# Altium integrated library Infineon_Power_Smart_Low-Side_&_High-Side_Switches.IntLib: 238 symbols (part 8 of 14)
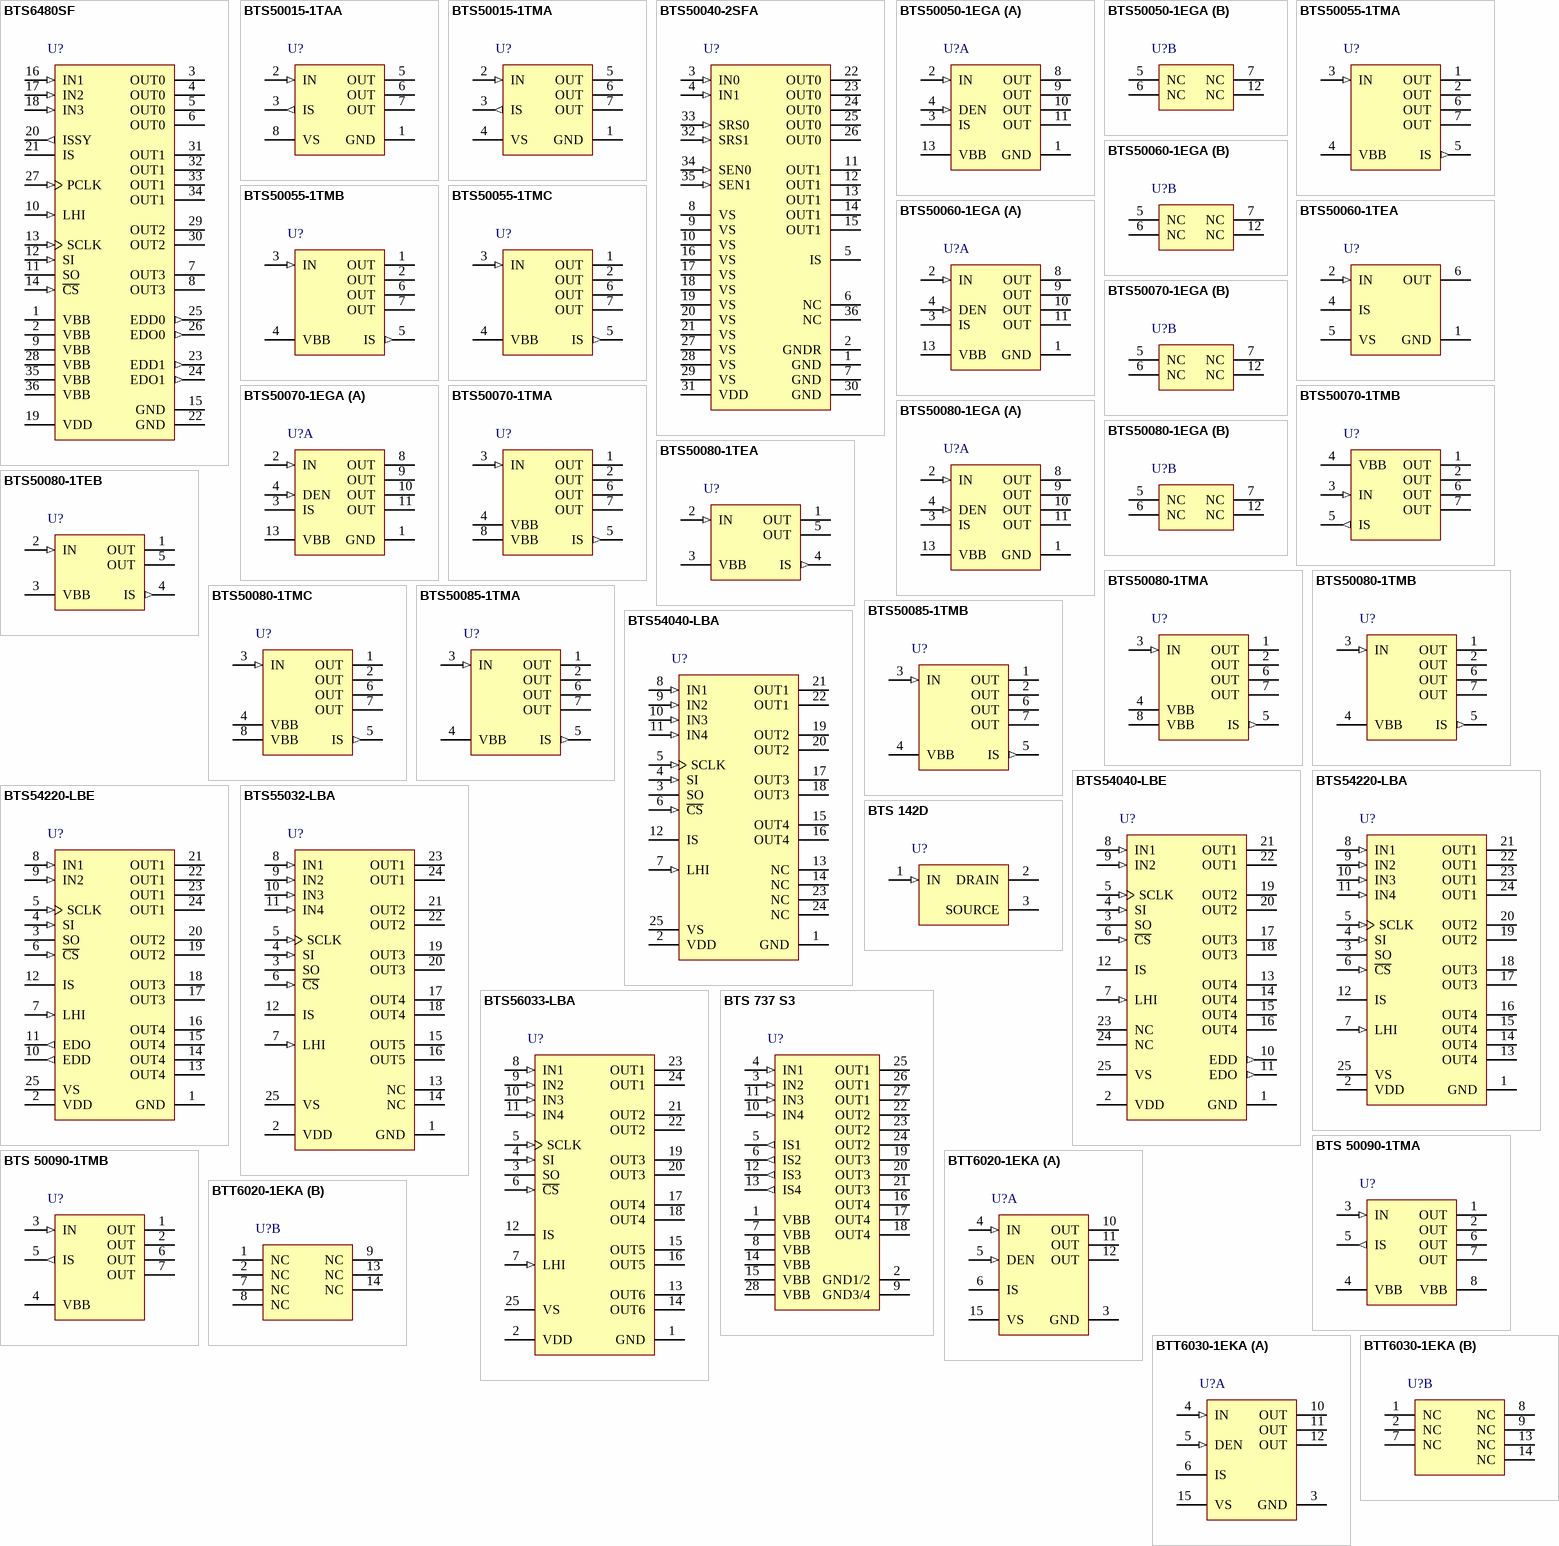
[diagram p14: symbols BTS6480SF to BTT6030-1EKA]

## BTS50015-1TAA
designator U?
Smart High-Side Power Switch, 1 Channel, 39 A Load Current, -40 to 150 degC, PG-TO-263-7-8, Reel, Green; Manufacturer: Infineon; PartNumber: BTS50015-1TAA; Channels: 1; Green: TRUE; Group: Automotive Qualified; Load Current (typ): 39 A; Ptot (max): 200 W; Recommended Operating Voltage Max.: 28 V; Recommended Operating Voltage Min.: 5.5 V; RON @ 25degreesC: 1.5 mOhm; RON(max) @ 150degreesC: 3 mOhm; toff (max): 700 us; DatasheetVersion: Rev. 1.2; PackageVersion: Nov-12; PackageReference: PG-TO-263-7-8; PackageDescription: 7-Pin Plastic (Green) Transistor Single Outline Package, 10 x 9.25 mm Body, 1.27 mm Pitch; Halogen-free: TRUE; Packing: Reel; ton (max): 700 us; Mounting Technology: Surface Mount; ComponentLink1Description: Manufacturer URL; ComponentLink1URL: http://www.infineon.com/; ComponentLink2Description: Datasheet; ComponentLink2URL: http://www.infineon.com/dgdl/BTS50015-1TAA-Data-Sheet-12-Infineon.pdf?folderId=db3a30431400ef68011421b54e2e0564&fileId=db3a30433784a04001380a070e4417b4&location=en.Products.Automotive_ICs.Smart_High-_and_Low-Side_Switches.PROFET__-_Smart_High_Side_Switches.DATASHEET.BTS50015-1TAA-Data-Sheet-12-Infineon.pdf; ComponentLink3Description: Package Specification; ComponentLink3URL: http://www.infineon.com/dgdl/BTS50015-1TAA-Data-Sheet-12-Infineon.pdf?folderId=db3a30431400ef68011421b54e2e0564&fileId=db3a30433784a04001380a070e4417b4&sId=db3a30433d68e984013d7d9b76595dff
footprint INF-PG-TO-263-7-8_N (DPAK, 7-Leads, Body 10x9.25mm, Pitch 1.27mm, IPC Medium Density)
footprint INF-PG-TO-263-7-8_L (DPAK, 7-Leads, Body 10x9.25mm, Pitch 1.27mm, IPC High Density)
footprint INF-PG-TO-263-7-8_M (DPAK, 7-Leads, Body 10x9.25mm, Pitch 1.27mm, IPC Low Density)
pins: 1 GND (power) "GrouND; Ground connection", 2 IN (in) "INput; Input signal for channel activation. HIGH active", 3 IS (out) "Sense; Provides signal for diagnosis", 5 OUT (power) "OUTput; Protected high side power output", 6 OUT (power) "OUTput; Protected high side power output", 7 OUT (power) "OUTput; Protected high side power output", 8 VS (power) "Supply Voltage; Battery voltage"

## BTS50015-1TMA
designator U?
Smart High-Side Power Switch, 1 Channel, 39 A Load Current, -40 to 150 degC, PG-TO-220-7-232, Reel, Green; Manufacturer: Infineon; PartNumber: BTS50015-1TMA; Channels: 1; Green: TRUE; Group: Automotive Qualified; Load Current (typ): 39 A; Ptot (max): 200 W; Recommended Operating Voltage Max.: 28 V; Recommended Operating Voltage Min.: 5.5 V; RON @ 25degreesC: 1.5 mOhm; RON(max) @ 150degreesC: 3 mOhm; toff (max): 700 us; DatasheetVersion: Rev. 1.1; PackageVersion: Jun-12; PackageReference: PG-TO-220-7-232; PackageDescription: 7-Pin Plastic (Green) Transistor Single Outline Package, 10 x 9.25 mm Body, 1.27 mm Pitch; Halogen-free: TRUE; Packing: Reel; ton (max): 700 us; Mounting Technology: Through Hole; ComponentLink1Description: Manufacturer URL; ComponentLink1URL: http://www.infineon.com/; ComponentLink2Description: Datasheet; ComponentLink2URL: http://www.infineon.com/dgdl/BTS50015-1TMA-Data-Sheet-11-Infineon.pdf?folderId=db3a30431400ef68011421b54e2e0564&fileId=db3a30433784a04001380e5aebb063eb&location=en.Products.Automotive_ICs.Smart_High-_and_Low-Side_Switches.PROFET__-_Smart_High_Side_Switches.DATASHEET.BTS50015-1TMA-Data-Sheet-11-Infineon.pdf; ComponentLink3Description: Package Specification; ComponentLink3URL: http://www.infineon.com/dgdl/BTS50015-1TMA-Data-Sheet-11-Infineon.pdf?folderId=db3a30431400ef68011421b54e2e0564&fileId=db3a30433784a04001380e5aebb063eb&sId=db3a30433d68e984013d81db2769743c
footprint INF-PG-TO-220-7-232 (FM, 7-Leads, Body 10x4.4mm, Pitch 1.27mm)
pins: 1 GND (power) "GrouND; Ground connection", 2 IN (in) "INput; Input signal for channel activation. HIGH active", 3 IS (out) "Sense; Provides signal for diagnosis", 4 VS (power) "Supply Voltage; Battery voltage", 5 OUT (power) "OUTput; Protected high side power output", 6 OUT (power) "OUTput; Protected high side power output", 7 OUT (power) "OUTput; Protected high side power output"

## BTS50040-2SFA
designator U?
Smart High-Side Power Switch, 2 Channels: 2 x 4 mOhm, 11 A Load Current, -40 to 150 degC, PG-DSO-36-44, Reel, Green; Manufacturer: Infineon; PartNumber: BTS50040-2SFA; Channels: 2; Green: TRUE; Group: Automotive Qualified; Load Current (typ): 11 A; Recommended Operating Voltage Max.: 28 V; Recommended Operating Voltage Min.: 6 V; RON @ 25degreesC: 4 mOhm; RON(max) @ 150degreesC: 8.2 mOhm; toff (max): 110 us; ton (max): 190 us; DatasheetVersion: Rev. 1.2; PackageVersion: Dec-12; PackageReference: PG-DSO-36-44; PackageDescription: 36-Pin Plastic (Green) Dual Small Outline Package, 12.7 x 7.5 mm Body, 0.65 mm Pitch; Halogen-free: TRUE; Packing: Reel; Mounting Technology: Surface Mount; ComponentLink1Description: Manufacturer URL; ComponentLink1URL: http://www.infineon.com/; ComponentLink2Description: Datasheet; ComponentLink2URL: http://www.infineon.com/dgdl/BTS50040-2SFA_DS_v12_2012-12-01.pdf?folderId=db3a30431400ef68011421b54e2e0564&fileId=db3a304334c41e910134c6debd0b303b&location=en.Products.Automotive_ICs.Smart_High-_and_Low-Side_Switches.PROFET__-_Smart_High_Side_Switches.DATASHEET.BTS50040-2SFA_DS_v12_2012-12-01.pdf; ComponentLink3Description: Package Specification; ComponentLink3URL: http://www.infineon.com/dgdl/BTS50040-2SFA_DS_v12_2012-12-01.pdf?folderId=db3a30431400ef68011421b54e2e0564&fileId=db3a304334c41e910134c6debd0b303b&sId=db3a30443d67b5ca013d81969ddd2cf7
footprint INF-PG-DSO-36-44_N (SOP, 36-Leads, Body 12.7x7.5mm, Pitch 0.65mm, IPC Medium Density)
footprint INF-PG-DSO-36-44_L (SOP, 36-Leads, Body 12.7x7.5mm, Pitch 0.65mm, IPC High Density)
footprint INF-PG-DSO-36-44_M (SOP, 36-Leads, Body 12.7x7.5mm, Pitch 0.65mm, IPC Low Density)
pins: 1 GND (power) "Ground; Ground connection for control chip", 2 GNDR (power) "Ground reference; Needs to be connected to GND", 3 IN0 (in) "Input 0; activates channel 0. Has an internal pull down resistor", 4 IN1 (in) "Input 1; activates channel 1. Has an internal pull down resistor", 5 IS (hiz) "Sense Output; analog sense current signal proportional to IL0 or IL1", 6 NC "Not connected; For handling of NC pins, please see Chapter 7.1", 7 GND (power) "Ground; Ground connection for control chip", 8 VS (power) "Supply voltage; Positive power supply for power outputs", 9 VS (power) "Supply voltage; Positive power supply for power outputs", 10 VS (power) "Supply voltage; Positive power supply for power outputs", 11 OUT1 (power) "Output of channel 1; power output 1", 12 OUT1 (power) "Output of channel 1; power output 1", 13 OUT1 (power) "Output of channel 1; power output 1", 14 OUT1 (power) "Output of channel 1; power output 1", 15 OUT1 (power) "Output of channel 1; power output 1", 16 VS (power) "Supply voltage; Positive power supply for power outputs", 17 VS (power) "Supply voltage; Positive power supply for power outputs", 18 VS (power) "Supply voltage; Positive power supply for power outputs", 19 VS (power) "Supply voltage; Positive power supply for power outputs", 20 VS (power) "Supply voltage; Positive power supply for power outputs", 21 VS (power) "Supply voltage; Positive power supply for power outputs", 22 OUT0 (power) "Output of channel 0; power output 0", 23 OUT0 (power) "Output of channel 0; power output 1", 24 OUT0 (power) "Output of channel 0; power output 2", 25 OUT0 (power) "Output of channel 0; power output 3", 26 OUT0 (power) "Output of channel 0; power output 4", 27 VS (power) "Supply voltage; Positive power supply for power outputs", 28 VS (power) "Supply voltage; Positive power supply for power outputs", 29 VS (power) "Supply voltage; Positive power supply for power outputs", 30 GND (power) "Ground; Ground connection for control chip", 31 VDD (power) "Logic supply (5V)", 32 SRS1 (in) "Slew rate selector pin 0. See section "Timings" on Page 22 for seetings", 33 SRS0 (in) "Slew rate selector pin 1. See section "Timings" on Page 22 for seetings", 34 SEN0 (in) "Sense Enable for channel 0. See Table 1", 35 SEN1 (in) "Sense Enable for channel 1. See Table 2", 36 NC "Not connected; For handling of NC pins, please see Chapter 7.1"

## BTS50050-1EGA
designator U?
Smart High-Side Power Switch PROFET, 1 Channel, 16 A Load Current, -40 to 150 degC, PG-DSO-12-16, Tube, Green; Manufacturer: Infineon; PartNumber: BTS50050-1EGA; Channels: 1; Green: TRUE; Group: Automotive Qualified; Load Current (typ): 16 A; Recommended Operating Voltage Max.: 28 V; Recommended Operating Voltage Min.: 6 V; RON @ 25degreesC: 5 mOhm; RON(max) @ 150degreesC: 10 mOhm; toff (max): 500 us; DatasheetVersion: Rev. 1.0; PackageVersion: Jun-08; PackageReference: PG-DSO-12-16; PackageDescription: 12-Pin Plastic (Green) Dual Small Outline Package, 7.5 x 6.4 mm Body, 1 mm Pitch; Supplier 1: Mouser; Supplier Part Number 1: 726-BTS500501EGA; Supplier 2: Digi-Key; Supplier Part Number 2: BTS50050-1EGA-ND; Halogen-free: TRUE; Packing: Tube; ton (max): 500 us; Mounting Technology: Surface Mount; ComponentLink1Description: Manufacturer URL; ComponentLink1URL: http://www.infineon.com/; ComponentLink2Description: Datasheet; ComponentLink2URL: http://www.infineon.com/dgdl/BTS50050-1EGA_DS_V10_20090406.pdf?folderId=db3a30431400ef68011421b54e2e0564&fileId=db3a30432239cccd01225963187d6b52&location=en.Products.Automotive_ICs.Smart_High-_and_Low-Side_Switches.PROFET__-_Smart_High_Side_Switches.DATASHEET.BTS50050-1EGA_DS_V10_20090406.pdf; ComponentLink3Description: Package Specification; ComponentLink3URL: http://www.infineon.com/dgdl/PG-DSO-12-4%2C-5%2C-8%2C-11%2C-12%2C-16-Package_Overview.pdf?folderId=db3a30431a5c32f2011a96d8abf9584d&fileId=db3a30431a5c32f2011a96ea67ce586f
footprint INF-PG-DSO-12-16_N (SOP, 12-Leads, Body 7.5x6.4mm, Pitch 1mm, Thermal Pad 4.3X7.9mm, IPC Medium Density)
footprint INF-PG-DSO-12-16_L (SOP, 12-Leads, Body 7.5x6.4mm, Pitch 1mm, Thermal Pad 4.3X7.9mm, IPC High Density)
footprint INF-PG-DSO-12-16_M (SOP, 12-Leads, Body 7.5x6.4mm, Pitch 1mm, Thermal Pad 4.3X7.9mm, IPC Low Density)
part A pins: 1 GND (power) "Ground connection for control chip", 2 IN (in) "Input: activates power switch. Has an internal pull down resistor.", 3 IS (hiz) "Sense Output: With diagnosis enabled, provides a sense current proportional to the load current during normal operation. During open load in ON provides no current. Provides a defined fault current in case of overload, over (See Datasheet)", 4 DEN (in) "Diagnosis ENable: with high level enables diagnosis reporting and open load / short to battery detection in OFF. Resets a protective, latched switch-off by falling edge acknowledgement. Has an internal pull down resistor.", 8 OUT (hiz) "Output: output to the load; pins 8 to 11 must be externally shorted together", 9 OUT (hiz) "Output: output to the load; pins 8 to 11 must be externally shorted together", 10 OUT (hiz) "Output: output to the load; pins 8 to 11 must be externally shorted together", 11 OUT (hiz) "Output: output to the load; pins 8 to 11 must be externally shorted together", 13 VBB (power) "Supply Voltage: positive power supply for logic and output"
part B pins: 5 NC "Not connected", 6 NC "Not connected", 7 NC "Not connected", 12 NC "Not connected"

## BTS50055-1TMA
designator U?
Smart Highside High Current Power Switch Reversave, 1 Channel, 17 A Load Current, -40 to 150 degC, PG-TO220-7-4, Reel, Green; Manufacturer: Infineon; PartNumber: BTS50055-1TMA; Channels: 1; Green: TRUE; Group: Automotive Qualified; Load Current (typ): 17 A; Recommended Operating Voltage Max.: 34 V; Recommended Operating Voltage Min.: 5 V; RON @ 25degreesC: 6 mOhm; RON(max) @ 150degreesC: 10.5 mOhm; toff (max): 500 us; DatasheetVersion: Rev. 1.1; PackageVersion: Apr-10; PackageReference: PG-TO220-7-4; PackageDescription: 7-Pin Plastic (Green) Transistor Single Outline Package, 10 x 9.25 mm Body, 1.27 mm Pitch; Supplier 1: Mouser; Supplier Part Number 1: 726-BTS500551TMA; Supplier 2: Newark; Supplier Part Number 2: 47W3395; Supplier 3: Farnell; Supplier Part Number 3: 2215481; Supplier 4: Digi-Key; Supplier Part Number 4: BTS50055-1TMATR-ND; Supplier 5: Digi-Key; Supplier Part Number 5: BTS50055-1TMACT-ND; Supplier 6: Digi-Key; Supplier Part Number 6: BTS50055-1TMADKR-ND; Halogen-free: TRUE; Packing: Reel; ton (max): 500 us; Mounting Technology: Surface Mount; ComponentLink1Description: Manufacturer URL; ComponentLink1URL: http://www.infineon.com/; ComponentLink2Description: Datasheet; ComponentLink2URL: http://www.infineon.com/dgdl/BTS50055-1TMA_DS_v11.pdf?folderId=db3a304314dca389011537739e37155f&fileId=db3a3043183a95550118607dca6c36c1&location=en.Products.Automotive_ICs.Smart_High-_and_Low-Side_Switches.PROFET__-_Smart_High_Side_Switches.DATASHEET.BTS50055-1TMA_DS_v11.pdf; ComponentLink3Description: Package Specification; ComponentLink3URL: http://www.infineon.com/dgdl/BTS50055-1TMA_DS_v11.pdf?folderId=db3a304314dca389011537739e37155f&fileId=db3a3043183a95550118607dca6c36c1&sId=db3a30433d68e984013d81e8892a7448
footprint INF-PG-TO220-7-4_N (DPAK, 7-Leads, Body 10x9.25mm, Pitch 1.27mm, IPC Medium Density)
footprint INF-PG-TO220-7-4_L (DPAK, 7-Leads, Body 10x9.25mm, Pitch 1.27mm, IPC High Density)
footprint INF-PG-TO220-7-4_M (DPAK, 7-Leads, Body 10x9.25mm, Pitch 1.27mm, IPC Low Density)
pins: 1 OUT (power) "Output to the load. The pins1,2,6 and 7 must be shorted with each other especially in high current applications!", 2 OUT (power) "Output to the load. The pins1,2,6 and 7 must be shorted with each other especially in high current applications!", 3 IN (in) "Input, activates the power switch in case of short to ground", 4 VBB (power) "Positive power supply voltage, the tab is electrically connected to this pin. In high current applications the tab should be used for the Vbb connection instead of this pin", 5 IS (out) "Diagnostic feedback providing a sense current proportional to the load current; zero current on failure (see Truth Table on page 7)", 6 OUT (power) "Output to the load. The pins1,2,6 and 7 must be shorted with each other especially in high current applications!", 7 OUT (power) "Output to the load. The pins1,2,6 and 7 must be shorted with each other especially in high current applications!"

## BTS50055-1TMB
designator U?
Smart Highside High Current Power Switch Reversave, 1 Channel, 17 A Load Current, -40 to 150 degC, PG-TO220-7-11, Tube, Green; Manufacturer: Infineon; PartNumber: BTS50055-1TMB; Channels: 1; Green: TRUE; Group: Automotive Qualified; Load Current (typ): 17 A; Packing: Reel; Ptot (max): 170 W; Recommended Operating Voltage Max.: 34 V; Recommended Operating Voltage Min.: 5 V; RON @ 25degreesC: 6 mOhm; RON(max) @ 150degreesC: 10.5 mOhm; toff (max): 200 us; ton (max): 470 us; DatasheetVersion: Rev. 1.1; PackageVersion: Jul-07; PackageReference: PG-TO220-7-11; PackageDescription: 7-Pin Plastic (Green) Transistor Single Outline Package, 10 x 9.25 mm Body, 1.27 mm Pitch; Supplier 1: Mouser; Supplier Part Number 1: 726-BTS500551TMB; Supplier 2: Newark; Supplier Part Number 2: 47W3396; Supplier 3: Farnell; Supplier Part Number 3: 2215520; Supplier 4: Digi-Key; Supplier Part Number 4: BTS50055-1TMB-ND; Halogen-free: TRUE; Mounting Technology: Through Hole; ComponentLink1Description: Manufacturer URL; ComponentLink1URL: http://www.infineon.com/; ComponentLink2Description: Datasheet; ComponentLink2URL: http://www.infineon.com/dgdl/BTS50055-1TMB_DS_v11.pdf?folderId=db3a304314dca389011537739e37155f&fileId=db3a3043183a95550118604aebee362a&location=en.Products.Automotive_ICs.Smart_High-_and_Low-Side_Switches.PROFET__-_Smart_High_Side_Switches.DATASHEET.BTS50055-1TMB_DS_v11.pdf; ComponentLink3Description: Package Specification; ComponentLink3URL: http://www.infineon.com/dgdl/TLE5205-2_DS_11%5B1%5D.pdf?folderId=db3a30431b3e89eb011bb632994f065b&fileId=db3a30431f848401011fc747c7a0797f&sId=db3a30433d68e984013d7d43135b5b6a
footprint INF-PG-TO220-7-11 (FM, 7-Leads, Body 10x9.25mm, Pitch 1.27mm)
pins: 1 OUT (power) "Output; output to the load; pin 1, 2, 6 and 7 must be externally shorted with each other especially in high current applications.", 2 OUT (power) "Output; output to the load; pin 1, 2, 6 and 7 must be externally shorted with each other especially in high current applications.", 3 IN (in) "Input; has an internal pull up; activates the power switch in case of short to ground", 4 VBB (power) "Supply voltage; positive power supply voltage; tab and pin 4 are internally shorted; in high current applications use the tab.", 5 IS (out) "Sense Output; Diagnostic feedback; provides a sense current proportional to the load current; zero current on failure (see Truth Table on page 7)", 6 OUT (power) "Output; output to the load; pin 1, 2, 6 and 7 must be externally shorted with each other especially in high current applications.", 7 OUT (power) "Output; output to the load; pin 1, 2, 6 and 7 must be externally shorted with each other especially in high current applications."

## BTS50055-1TMC
designator U?
Smart Highside High Current Power Switch Reversave, 1 Channel, 17 A Load Current, -40 to 150 degC, PG-TO220-7-4, Reel, Green; Manufacturer: Infineon; PartNumber: BTS50055-1TMC; Channels: 1; Green: TRUE; Group: Automotive Qualified; Load Current (typ): 17 A; Ptot (max): 170 W; Recommended Operating Voltage Max.: 34 V; Recommended Operating Voltage Min.: 5.5 V; RON @ 25degreesC: 6 mOhm; RON(max) @ 150degreesC: 10.5 mOhm; toff (max): 200 us; ton (max): 470 us; DatasheetVersion: Rev. 1.1; PackageVersion: Apr-10; PackageReference: PG-TO220-7-4; PackageDescription: 7-Pin Plastic (Green) Transistor Single Outline Package, 10 x 9.25 mm Body, 1.27 mm Pitch; Supplier 1: Mouser; Supplier Part Number 1: 726-BTS500551TMC; Supplier 2: Digi-Key; Supplier Part Number 2: BTS50055-1TMCTR-ND; Supplier 3: Digi-Key; Supplier Part Number 3: BTS50055-1TMCCT-ND; Supplier 4: Digi-Key; Supplier Part Number 4: BTS50055-1TMCDKR-ND; Halogen-free: TRUE; Packing: Reel; Mounting Technology: Surface Mount; ComponentLink1Description: Manufacturer URL; ComponentLink1URL: http://www.infineon.com/; ComponentLink2Description: Datasheet; ComponentLink2URL: http://www.infineon.com/dgdl/BTS50055-1TMC_DS_v11.pdf?folderId=db3a304314dca389011537739e37155f&fileId=db3a3043183a955501186082e9d636d5&location=en.Products.Automotive_ICs.Smart_High-_and_Low-Side_Switches.PROFET__-_Smart_High_Side_Switches.DATASHEET.BTS50055-1TMC_DS_v11.pdf; ComponentLink3Description: Package Specification; ComponentLink3URL: http://www.infineon.com/dgdl/BTS50055-1TMA_DS_v11.pdf?folderId=db3a304314dca389011537739e37155f&fileId=db3a3043183a95550118607dca6c36c1&sId=db3a30433d68e984013d81e8892a7448
footprint INF-PG-TO220-7-4_N (DPAK, 7-Leads, Body 10x9.25mm, Pitch 1.27mm, IPC Medium Density)
footprint INF-PG-TO220-7-4_L (DPAK, 7-Leads, Body 10x9.25mm, Pitch 1.27mm, IPC High Density)
footprint INF-PG-TO220-7-4_M (DPAK, 7-Leads, Body 10x9.25mm, Pitch 1.27mm, IPC Low Density)
pins: 1 OUT (power) "Output to the load. The pins1,2,6 and 7 must be shorted with each other especially in high current applications!", 2 OUT (power) "Output to the load. The pins1,2,6 and 7 must be shorted with each other especially in high current applications!", 3 IN (in) "Input, activates the power switch in case of short to ground", 4 VBB (power) "Positive power supply voltage, the tab is electrically connected to this pin. In high current applications the tab should be used for the Vbb connection instead of this pin", 5 IS (out) "Diagnostic feedback providing a sense current proportional to the load current; zero current on failure (see Truth Table on page 7)", 6 OUT (power) "Output to the load. The pins1,2,6 and 7 must be shorted with each other especially in high current applications!", 7 OUT (power) "Output to the load. The pins1,2,6 and 7 must be shorted with each other especially in high current applications!"

## BTS50060-1EGA
designator U?
Smart High-Side Power Switch PROFET, 1 Channel, 15 A Load Current, -40 to 150 degC, PG-DSO-12-16, Reel, Green; Manufacturer: Infineon; PartNumber: BTS50060-1EGA; Channels: 1; Green: TRUE; Group: Automotive Qualified; Load Current (typ): 15 A; Recommended Operating Voltage Max.: 28 V; Recommended Operating Voltage Min.: 6 V; RON @ 25degreesC: 6 mOhm; RON(max) @ 150degreesC: 12 mOhm; toff (max): 500 us; DatasheetVersion: Rev. 1.0; PackageVersion: Jun-08; PackageReference: PG-DSO-12-16; PackageDescription: 12-Pin Plastic (Green) Dual Small Outline Package, 7.5 x 6.4 mm Body, 1 mm Pitch; Supplier 1: Mouser; Supplier Part Number 1: 726-BTS500601EGA; Supplier 2: Digi-Key; Supplier Part Number 2: BTS50060-1EGA-ND; Halogen-free: TRUE; Packing: Reel; ton (max): 500 us; Mounting Technology: Surface Mount; ComponentLink1Description: Manufacturer URL; ComponentLink1URL: http://www.infineon.com/; ComponentLink2Description: Datasheet; ComponentLink2URL: http://www.infineon.com/dgdl/BTS50060-1EGA_DS_V10_20090406.pdf?folderId=db3a30431400ef68011421b54e2e0564&fileId=db3a30432239cccd012255a9913359e0&location=en.Products.Automotive_ICs.Smart_High-_and_Low-Side_Switches.PROFET__-_Smart_High_Side_Switches.DATASHEET.BTS50060-1EGA_DS_V10_20090406.pdf; ComponentLink3Description: Package Specification; ComponentLink3URL: http://www.infineon.com/dgdl/PG-DSO-12-4%2C-5%2C-8%2C-11%2C-12%2C-16-Package_Overview.pdf?folderId=db3a30431a5c32f2011a96d8abf9584d&fileId=db3a30431a5c32f2011a96ea67ce586f
footprint INF-PG-DSO-12-16_N (SOP, 12-Leads, Body 7.5x6.4mm, Pitch 1mm, Thermal Pad 4.3X7.9mm, IPC Medium Density)
footprint INF-PG-DSO-12-16_L (SOP, 12-Leads, Body 7.5x6.4mm, Pitch 1mm, Thermal Pad 4.3X7.9mm, IPC High Density)
footprint INF-PG-DSO-12-16_M (SOP, 12-Leads, Body 7.5x6.4mm, Pitch 1mm, Thermal Pad 4.3X7.9mm, IPC Low Density)
part A pins: 1 GND (power) "Ground connection for control chip", 2 IN (in) "Input: activates power switch. Has an internal pull down resistor.", 3 IS (hiz) "Sense Output: With diagnosis enabled, provides a sense current proportional to the load current during normal operation. During open load in ON provides no current. Provides a defined fault current in case of overload, over (See Datasheet)", 4 DEN (in) "Diagnosis ENable: with high level enables diagnosis reporting and open load / short to battery detection in OFF. Resets a protective, latched switch-off by falling edge acknowledgement. Has an internal pull down resistor.", 8 OUT (hiz) "Output: output to the load; pins 8 to 11 must be externally shorted together", 9 OUT (hiz) "Output: output to the load; pins 8 to 11 must be externally shorted together", 10 OUT (hiz) "Output: output to the load; pins 8 to 11 must be externally shorted together", 11 OUT (hiz) "Output: output to the load; pins 8 to 11 must be externally shorted together", 13 VBB (power) "Supply Voltage: positive power supply for logic and output"
part B pins: 5 NC "Not connected", 6 NC "Not connected", 7 NC "Not connected", 12 NC "Not connected"

## BTS50060-1TEA
designator U?
High Current PROFET Smart High-Side Power Switch, 1 Channel, 16.5 A Load Current, -40 to 150 degC, PG-TO252-5-11, Reel, Green; Manufacturer: Infineon; PartNumber: BTS50060-1TEA; Channels: 1; Green: TRUE; Group: Automotive Qualified; Load Current (typ): 16.5 A; Recommended Operating Voltage Max.: 28 V; Recommended Operating Voltage Min.: 4.7 V; RON @ 25degreesC: 6 mOhm; RON(max) @ 150degreesC: 12 mOhm; toff (max): 150 us; ton (max): 130 us; DatasheetVersion: Rev.1.2; PackageVersion: Sep-11; PackageReference: PG-TO252-5-11; PackageDescription: 5-Pin Plastic (Green) Transistor Single Outline Package, 6.5 x 6.12 mm Body, 1.14 mm Pitch; Supplier 1: Mouser; Supplier Part Number 1: 726-BTS50060-1TEA; Supplier 2: Digi-Key; Supplier Part Number 2: BTS50060-1TEA-ND; Halogen-free: TRUE; Packing: Reel; Mounting Technology: Surface Mount; ComponentLink1Description: Manufacturer URL; ComponentLink1URL: http://www.infineon.com/; ComponentLink2Description: Datasheet; ComponentLink2URL: http://www.infineon.com/dgdl/BTS50060-1TEA_DS_v12_2011-09-01.pdf?folderId=db3a304314dca389011537739e37155f&fileId=db3a30432ac1eb91012ad29559f104ad&location=en.Products.Automotive_ICs.Smart_High-_and_Low-Side_Switches.PROFET__-_Smart_High_Side_Switches.DATASHEET.BTS50060-1TEA_DS_v12_2011-09-01.pdf; ComponentLink3Description: Package Specification; ComponentLink3URL: http://www.infineon.com/dgdl/BTF50060-1TEA_DS_v12_2011-09-01.pdf?folderId=db3a304314dca389011537739e37155f&fileId=db3a30432ad629a6012b0a94d88d3f2e&sId=db3a30433db6f09f013dc356c9f93bd9
footprint INF-PG-TO252-5_BTF50060_N (DPAK, 5-Leads, Body 6.5x6.12mm, Pitch 1.14mm, IPC Medium Density)
footprint INF-PG-TO252-5_BTF50060_L (DPAK, 5-Leads, Body 6.5x6.12mm, Pitch 1.14mm, IPC High Density)
footprint INF-PG-TO252-5_BTF50060_M (DPAK, 5-Leads, Body 6.5x6.12mm, Pitch 1.14mm, IPC Low Density)
pins: 1 GND (power) "Ground; Ground connection for control chip.", 2 IN (in) "Input; Digital 3.3 V and 5 V compatible logic input; activates power switch if set to HIGH level; Includes internal pull-down resistor RIN.", 4 IS (hiz) "Sense; Provides analog sense current signal and defined fault signal.", 5 VS (power) "Supply Voltage; Positive Supply Voltage for Logic and Power Stage.", 6 OUT (power) "Output; Protected high side power output."

## BTS50070-1EGA
designator U?
Smart High-Side Power Switch PROFET, 1 Channel, 14 A Load Current, -40 to 150 degC, PG-DSO-12-16, Reel, Green; Manufacturer: Infineon; PartNumber: BTS50070-1EGA; Channels: 1; Green: TRUE; Group: Automotive Qualified; Load Current (typ): 14 A; Recommended Operating Voltage Max.: 28 V; Recommended Operating Voltage Min.: 6 V; RON @ 25degreesC: 7 mOhm; RON(max) @ 150degreesC: 14 mOhm; toff (max): 500 us; DatasheetVersion: Rev. 1.0; PackageVersion: Jun-08; PackageReference: PG-DSO-12-16; PackageDescription: 12-Pin Plastic (Green) Dual Small Outline Package, 7.5 x 6.4 mm Body, 1 mm Pitch; Supplier 1: Mouser; Supplier Part Number 1: 726-BTS500701EGA; Supplier 2: Digi-Key; Supplier Part Number 2: BTS50070-1EGA-ND; Halogen-free: TRUE; Packing: Reel; ton (max): 500 us; Mounting Technology: Surface Mount; ComponentLink1Description: Manufacturer URL; ComponentLink1URL: http://www.infineon.com/; ComponentLink2Description: Datasheet; ComponentLink2URL: http://www.infineon.com/dgdl/BTS50070-1EGA_DS_V10_20090406.pdf?folderId=db3a30431400ef68011421b54e2e0564&fileId=db3a30432239cccd0122596b263c6b63&location=en.Products.Automotive_ICs.Smart_High-_and_Low-Side_Switches.PROFET__-_Smart_High_Side_Switches.DATASHEET.BTS50070-1EGA_DS_V10_20090406.pdf; ComponentLink3Description: Package Specification; ComponentLink3URL: http://www.infineon.com/dgdl/PG-DSO-12-4%2C-5%2C-8%2C-11%2C-12%2C-16-Package_Overview.pdf?folderId=db3a30431a5c32f2011a96d8abf9584d&fileId=db3a30431a5c32f2011a96ea67ce586f
footprint INF-PG-DSO-12-16_N (SOP, 12-Leads, Body 7.5x6.4mm, Pitch 1mm, Thermal Pad 4.3X7.9mm, IPC Medium Density)
footprint INF-PG-DSO-12-16_L (SOP, 12-Leads, Body 7.5x6.4mm, Pitch 1mm, Thermal Pad 4.3X7.9mm, IPC High Density)
footprint INF-PG-DSO-12-16_M (SOP, 12-Leads, Body 7.5x6.4mm, Pitch 1mm, Thermal Pad 4.3X7.9mm, IPC Low Density)
part A pins: 1 GND (power) "Ground connection for control chip", 2 IN (in) "Input: activates power switch. Has an internal pull down resistor.", 3 IS (hiz) "Sense Output: With diagnosis enabled, provides a sense current proportional to the load current during normal operation. During open load in ON provides no current. Provides a defined fault current in case of overload, over (See Datasheet)", 4 DEN (in) "Diagnosis ENable: with high level enables diagnosis reporting and open load / short to battery detection in OFF. Resets a protective, latched switch-off by falling edge acknowledgement. Has an internal pull down resistor.", 8 OUT (power) "Output: output to the load; pins 8 to 11 must be externally shorted together", 9 OUT (power) "Output: output to the load; pins 8 to 11 must be externally shorted together", 10 OUT (power) "Output: output to the load; pins 8 to 11 must be externally shorted together", 11 OUT (power) "Output: output to the load; pins 8 to 11 must be externally shorted together", 13 VBB (power) "Supply Voltage: positive power supply for logic and output"
part B pins: 5 NC "Not connected", 6 NC "Not connected", 7 NC "Not connected", 12 NC "Not connected"

## BTS50070-1TMA
designator U?
Smart High-Side Power Switch PROFET, 1 Channel, 12 A Load Current, -40 to 150 degC, PG-TO220-7-4, Reel, Green; Manufacturer: Infineon; PartNumber: BTS50070-1TMA; Channels: 1; Green: TRUE; Group: Automotive Qualified; Load Current (typ): 12 A; Ptot (max): 81 W; Recommended Operating Voltage Max.: 30 V; Recommended Operating Voltage Min.: 5.5 V; RON @ 25degreesC: 7 mOhm; RON(max) @ 150degreesC: 14 mOhm; toff (max): 600 us; ton (max): 550 us; DatasheetVersion: Rev. 1.0; PackageVersion: Apr-10; PackageReference: PG-TO220-7-4; PackageDescription: 7-Pin Plastic (Green) Transistor Single Outline Package, 10 x 9.25 mm Body, 1.27 mm Pitch; Supplier 1: Mouser; Supplier Part Number 1: 726-BTS500701TMA; Supplier 2: Digi-Key; Supplier Part Number 2: BTS50070-1TMAINTR-ND; Supplier 3: Digi-Key; Supplier Part Number 3: BTS50070-1TMAINCT-ND; Supplier 4: Digi-Key; Supplier Part Number 4: BTS50070-1TMAINDKR-ND; Halogen-free: TRUE; Packing: Reel; Mounting Technology: Surface Mount; ComponentLink1Description: Manufacturer URL; ComponentLink1URL: http://www.infineon.com/; ComponentLink2Description: Datasheet; ComponentLink2URL: http://www.infineon.com/dgdl/BTS50070-1TMA_DS_v10.pdf?folderId=db3a30431c69a49d011c93a00d19055e&fileId=db3a30431ff9881501206251db6e61d1&location=en.Products.Automotive_ICs.Smart_High-_and_Low-Side_Switches.PROFET__-_Smart_High_Side_Switches.DATASHEET.BTS50070-1TMA_DS_v10.pdf; ComponentLink3Description: Package Specification; ComponentLink3URL: http://www.infineon.com/dgdl/BTS50055-1TMA_DS_v11.pdf?folderId=db3a304314dca389011537739e37155f&fileId=db3a3043183a95550118607dca6c36c1&sId=db3a30433d68e984013d81e8892a7448
footprint INF-PG-TO220-7-4_N (DPAK, 7-Leads, Body 10x9.25mm, Pitch 1.27mm, IPC Medium Density)
footprint INF-PG-TO220-7-4_L (DPAK, 7-Leads, Body 10x9.25mm, Pitch 1.27mm, IPC High Density)
footprint INF-PG-TO220-7-4_M (DPAK, 7-Leads, Body 10x9.25mm, Pitch 1.27mm, IPC Low Density)
pins: 1 OUT (power) "Output; output to the load; pin 1, 2, 6 and 7 must be externally shorted.", 2 OUT (power) "Output; output to the load; pin 1, 2, 6 and 7 must be externally shorted.", 3 IN (in) "Input; activates the power switch if shorted to ground.", 4 VBB (power) "Supply Voltage; positive power supply voltage; tab and pin 4 are internally shorted", 5 IS (out) "Sense Output; Diagnostic feedback; provides at normal operation a sense current proportional to the load current; in case of overload, overtemperature and/or short circuit a defined current is provided (see Table 1 “Truth (See Datasheet)", 6 OUT (power) "Output; output to the load; pin 1, 2, 6 and 7 must be externally shorted.", 7 OUT (power) "Output; output to the load; pin 1, 2, 6 and 7 must be externally shorted.", 8 VBB (power) "Supply Voltage; positive power supply voltage; tab and pin 4 are internally shorted"

## BTS50070-1TMB
designator U?
Smart High-Side Power Switch PROFET, 1 Channel, 12 A Load Current, -40 to 150 degC, PG-TO220-7-12, Tube, Green; Manufacturer: Infineon; PartNumber: BTS50070-1TMB; Channels: 1; Green: TRUE; Group: Automotive Qualified; Load Current (typ): 12 A; Ptot (max): 81 W; Recommended Operating Voltage Max.: 30 V; Recommended Operating Voltage Min.: 5.5 V; RON @ 25degreesC: 7 mOhm; RON(max) @ 150degreesC: 14 mOhm; toff (max): 600 us; ton (max): 550 us; DatasheetVersion: Rev. 1.0; PackageVersion: Jul-07; PackageReference: PG-TO220-7-12; PackageDescription: 7-Pin Plastic (Green) Transistor Single Outline Package, 10 x 9.25 mm Body, 1.27 mm Pitch; Supplier 1: Mouser; Supplier Part Number 1: 726-BTS500701TMB; Supplier 2: Digi-Key; Supplier Part Number 2: BTS50070-1TMB-ND; Halogen-free: TRUE; Packing: Tube; Mounting Technology: Through Hole; ComponentLink1Description: Manufacturer URL; ComponentLink1URL: http://www.infineon.com/; ComponentLink2Description: Datasheet; ComponentLink2URL: http://www.infineon.com/dgdl/BTS50070-1TMB_DS_v10.pdf?folderId=db3a30431c69a49d011c93a00d19055e&fileId=db3a30431ff9881501206259c69661e5&location=en.Products.Automotive_ICs.Smart_High-_and_Low-Side_Switches.PROFET__-_Smart_High_Side_Switches.DATASHEET.BTS50070-1TMB_DS_v10.pdf; ComponentLink3Description: Package Specification; ComponentLink3URL: http://www.infineon.com/dgdl/TLE5205-2_DS_11%5B1%5D.pdf?folderId=db3a30431b3e89eb011bb632994f065b&fileId=db3a30431f848401011fc747c7a0797f&sId=db3a30433d68e984013d7d43135b5b6a
footprint INF-PG-TO220-7-12 (FM, 7-Leads, Body 10x4.4mm, Pitch 1.27mm)
pins: 1 OUT (power) "Output; output to the load; pin 1, 2, 6 and 7 must be externally shorted.1", 2 OUT (power) "Output; output to the load; pin 1, 2, 6 and 7 must be externally shorted.1", 3 IN (in) "Input; activates the power switch if shorted to ground", 4 VBB (power) "Supply Voltage; positive power supply voltage; tab and pin 4 are internally shorted.", 5 IS (out) "Sense Output; Diagnostic feedback; provides at normal operation a sense current  proportional to the load current; in case of overload, overtemperature and/or short  circuit a defined current is provided", 6 OUT (power) "Output; output to the load; pin 1, 2, 6 and 7 must be externally shorted.1", 7 OUT (power) "Output; output to the load; pin 1, 2, 6 and 7 must be externally shorted.1"

## BTS50080-1EGA
designator U?
Smart High-Side Power Switch PROFET, 1 Channel, 13 A Load Current, -40 to 150 degC, PG-DSO-12-16, Reel, Green; Manufacturer: Infineon; PartNumber: BTS50080-1EGA; Channels: 1; Green: TRUE; Group: Automotive Qualified; Load Current (typ): 13 A; Recommended Operating Voltage Max.: 28 V; Recommended Operating Voltage Min.: 6 V; RON @ 25degreesC: 8 mOhm; RON(max) @ 150degreesC: 16 mOhm; toff (max): 500 us; DatasheetVersion: Rev. 1.0; PackageVersion: Jun-08; PackageReference: PG-DSO-12-16; PackageDescription: 12-Pin Plastic (Green) Dual Small Outline Package, 7.5 x 6.4 mm Body, 1 mm Pitch; Supplier 1: Mouser; Supplier Part Number 1: 726-BTS500801EGA; Supplier 2: Digi-Key; Supplier Part Number 2: BTS50080-1EGA-ND; Halogen-free: TRUE; Packing: Reel; ton (max): 500 us; Mounting Technology: Surface Mount; ComponentLink1Description: Manufacturer URL; ComponentLink1URL: http://www.infineon.com/; ComponentLink2Description: Datasheet; ComponentLink2URL: http://www.infineon.com/dgdl/BTS50080-1EGA_DS_V10_20090406.pdf?folderId=db3a30431400ef68011421b54e2e0564&fileId=db3a30432239cccd0122597028f96b76&location=en.Products.Automotive_ICs.Smart_High-_and_Low-Side_Switches.PROFET__-_Smart_High_Side_Switches.DATASHEET.BTS50080-1EGA_DS_V10_20090406.pdf; ComponentLink3Description: Package Specification; ComponentLink3URL: http://www.infineon.com/dgdl/PG-DSO-12-4%2C-5%2C-8%2C-11%2C-12%2C-16-Package_Overview.pdf?folderId=db3a30431a5c32f2011a96d8abf9584d&fileId=db3a30431a5c32f2011a96ea67ce586f
footprint INF-PG-DSO-12-16_N (SOP, 12-Leads, Body 7.5x6.4mm, Pitch 1mm, Thermal Pad 4.3X7.9mm, IPC Medium Density)
footprint INF-PG-DSO-12-16_L (SOP, 12-Leads, Body 7.5x6.4mm, Pitch 1mm, Thermal Pad 4.3X7.9mm, IPC High Density)
footprint INF-PG-DSO-12-16_M (SOP, 12-Leads, Body 7.5x6.4mm, Pitch 1mm, Thermal Pad 4.3X7.9mm, IPC Low Density)
part A pins: 1 GND (power) "Ground connection for control chip", 2 IN (in) "Input: activates power switch. Has an internal pull down resistor.", 3 IS (hiz) "Sense Output: With diagnosis enabled, provides a sense current proportional to the load current during normal operation. During open load in ON provides no current. Provides a defined fault current in case of overload, over (See Datasheet)", 4 DEN (in) "Diagnosis ENable: with high level enables diagnosis reporting and open load / short to battery detection in OFF. Resets a protective, latched switch-off by falling edge acknowledgement. Has an internal pull down resistor.", 8 OUT (power) "Output: output to the load; pins 8 to 11 must be externally shorted together", 9 OUT (power) "Output: output to the load; pins 8 to 11 must be externally shorted together", 10 OUT (power) "Output: output to the load; pins 8 to 11 must be externally shorted together", 11 OUT (power) "Output: output to the load; pins 8 to 11 must be externally shorted together", 13 VBB (power) "Supply Voltage: positive power supply for logic and output"
part B pins: 5 NC "Not connected", 6 NC "Not connected", 7 NC "Not connected", 12 NC "Not connected"

## BTS50080-1TEA
designator U?
Smart High-Side Power Switch PROFET, 1 Channel, 10 A Load Current, -40 to 150 degC, PG-TO252-5-11, Reel, Green; Manufacturer: Infineon; PartNumber: BTS50080-1TEA; Channels: 1; Green: TRUE; Group: Automotive Qualified; Load Current (typ): 10 A; Recommended Operating Voltage Max.: 30 V; Recommended Operating Voltage Min.: 5.5 V; RON @ 25degreesC: 8 mOhm; RON(max) @ 150degreesC: 16 mOhm; toff (max): 500 us; DatasheetVersion: Rev. 1.0; PackageVersion: Nov-10; PackageReference: PG-TO252-5-11; PackageDescription: 5-Pin Plastic (Green) Transistor Single Outline Package, 6.5 x 6.12 mm Body, 1.14 mm Pitch; Supplier 1: Mouser; Supplier Part Number 1: 726-BTS500801TEA; Supplier 2: Digi-Key; Supplier Part Number 2: BTS50080-1TEAINTR-ND; Supplier 3: Digi-Key; Supplier Part Number 3: BTS50080-1TEAINCT-ND; Supplier 4: Digi-Key; Supplier Part Number 4: BTS50080-1TEAINDKR-ND; Halogen-free: TRUE; Packing: Reel; ton (max): 500 us; Mounting Technology: Surface Mount; ComponentLink1Description: Manufacturer URL; ComponentLink1URL: http://www.infineon.com/; ComponentLink2Description: Datasheet; ComponentLink2URL: http://www.infineon.com/dgdl/BTS50080-1TEA_DS_v10.pdf?folderId=db3a304314dca389011537739e37155f&fileId=db3a30431ce5fb52011d7264d7916f32&location=en.Products.Automotive_ICs.Smart_High-_and_Low-Side_Switches.PROFET__-_Smart_High_Side_Switches.DATASHEET.BTS50080-1TEA_DS_v10.pdf; ComponentLink3Description: Package Specification; ComponentLink3URL: http://www.infineon.com/dgdl/TLE7276-Data+Sheet-+v1_11.pdf?folderId=db3a304412b407950112b408e8c90004&fileId=db3a304412b407950112b436c53f66c8&sId=db3a30433db6f09f013dc0e43c0428c1
footprint INF-PG-TO252-5-11_N (DPAK, 5-Leads, Body 6.5x6.12mm, Pitch 1.14mm, IPC Medium Density)
footprint INF-PG-TO252-5-11_L (DPAK, 5-Leads, Body 6.5x6.12mm, Pitch 1.14mm, IPC High Density)
footprint INF-PG-TO252-5-11_M (DPAK, 5-Leads, Body 6.5x6.12mm, Pitch 1.14mm, IPC Low Density)
pins: 1 OUT (power) "Output; output to the load; pin 1 and 5 must be externally shorted.", 2 IN (in) "Input; activates the power switch if shorted to ground.", 3 VBB (power) "Supply Voltage; positive power supply voltage; tab and pin 3 are internally shorted", 4 IS (out) "Sense Output; Diagnostic feedback; provides at normal operation a sense current proportional to the load current; in case of overload, overtemperature and/or short circuit a defined current is provided (see Table 1 “Truth (See Datasheet)", 5 OUT (power) "Output; output to the load; pin 1 and 5 must be externally shorted."

## BTS50080-1TEB
designator U?
Smart High-Side Power Switch PROFET, 1 Channel, 10 A Load Current, -40 to 150 degC, PG-TO252-5-11, Reel, Green; Manufacturer: Infineon; PartNumber: BTS50080-1TEB; Channels: 1; Green: TRUE; Group: Automotive Qualified; Load Current (typ): 10 A; Recommended Operating Voltage Max.: 30 V; Recommended Operating Voltage Min.: 5.5 V; RON @ 25degreesC: 8 mOhm; RON(max) @ 150degreesC: 16 mOhm; toff (max): 500 us; DatasheetVersion: Rev. 1.0; PackageVersion: Nov-10; PackageReference: PG-TO252-5-11; PackageDescription: 5-Pin Plastic (Green) Transistor Single Outline Package, 6.5 x 6.12 mm Body, 1.14 mm Pitch; Supplier 1: Mouser; Supplier Part Number 1: 726-BTS500801TE726B; Supplier 2: Digi-Key; Supplier Part Number 2: BTS50080-1TEBTR-ND; Supplier 3: Digi-Key; Supplier Part Number 3: BTS50080-1TEBCT-ND; Supplier 4: Digi-Key; Supplier Part Number 4: BTS50080-1TEBDKR-ND; Halogen-free: TRUE; Packing: Reel; ton (max): 500 us; Mounting Technology: Surface Mount; ComponentLink1Description: Manufacturer URL; ComponentLink1URL: http://www.infineon.com/; ComponentLink2Description: Datasheet; ComponentLink2URL: http://www.infineon.com/dgdl/BTS50080-1TEB_DS_v10.pdf?folderId=db3a304314dca389011537739e37155f&fileId=db3a30431ce5fb52011d72636dae6f2b&location=en.Products.Automotive_ICs.Smart_High-_and_Low-Side_Switches.PROFET__-_Smart_High_Side_Switches.DATASHEET.BTS50080-1TEB_DS_v10.pdf; ComponentLink3Description: Package Specification; ComponentLink3URL: http://www.infineon.com/dgdl/TLE7276-Data+Sheet-+v1_11.pdf?folderId=db3a304412b407950112b408e8c90004&fileId=db3a304412b407950112b436c53f66c8&sId=db3a30433db6f09f013dc0e43c0428c1
footprint INF-PG-TO252-5-11_N (DPAK, 5-Leads, Body 6.5x6.12mm, Pitch 1.14mm, IPC Medium Density)
footprint INF-PG-TO252-5-11_L (DPAK, 5-Leads, Body 6.5x6.12mm, Pitch 1.14mm, IPC High Density)
footprint INF-PG-TO252-5-11_M (DPAK, 5-Leads, Body 6.5x6.12mm, Pitch 1.14mm, IPC Low Density)
pins: 1 OUT (power) "Output; output to the load; pin 1 and 5 must be externally shorted.", 2 IN (in) "Input; activates the power switch if shorted to ground.", 3 VBB (power) "Supply Voltage; positive power supply voltage; tab and pin 3 are internally shorted.", 4 IS (out) "Sense Output; Diagnostic feedback; provides at normal operation a sense current proportional to the load current; in case of overload, overtemperature and/or short circuit a defined current is provided.", 5 OUT (power) "Output; output to the load; pin 1 and 5 must be externally shorted."

## BTS50080-1TMA
designator U?
Smart High-Side Power Switch PROFET, 1 Channel, 12 A Load Current, -40 to 150 degC, PG-TO220-7-4, Reel, Green; Manufacturer: Infineon; PartNumber: BTS50080-1TMA; Channels: 1; Green: TRUE; Group: Automotive Qualified; Load Current (typ): 12 A; Ptot (max): 81 W; Recommended Operating Voltage Max.: 38 V; Recommended Operating Voltage Min.: 5.5 V; RON @ 25degreesC: 8 mOhm; RON(max) @ 150degreesC: 16 mOhm; toff (max): 600 us; ton (max): 550 us; DatasheetVersion: Rev. 1.0; PackageVersion: Apr-10; PackageReference: PG-TO220-7-4; PackageDescription: 7-Pin Plastic (Green) Transistor Single Outline Package, 10 x 9.25 mm Body, 1.27 mm Pitch; Supplier 1: Mouser; Supplier Part Number 1: 726-BTS500801TMA; Supplier 2: Newark; Supplier Part Number 2: 47W3397; Supplier 3: Farnell; Supplier Part Number 3: 2215490; Supplier 4: Digi-Key; Supplier Part Number 4: BTS50080-1TMATR-ND; Supplier 5: Digi-Key; Supplier Part Number 5: BTS50080-1TMACT-ND; Supplier 6: Digi-Key; Supplier Part Number 6: BTS50080-1TMADKR-ND; Halogen-free: TRUE; Packing: Reel; Mounting Technology: Surface Mount; ComponentLink1Description: Manufacturer URL; ComponentLink1URL: http://www.infineon.com/; ComponentLink2Description: Datasheet; ComponentLink2URL: http://www.infineon.com/dgdl/BTS50080-1TMA_DS_v10.pdf?folderId=db3a304314dca389011537739e37155f&fileId=db3a3043183a9555011860875ffd36e9&location=en.Products.Automotive_ICs.Smart_High-_and_Low-Side_Switches.PROFET__-_Smart_High_Side_Switches.DATASHEET.BTS50080-1TMA_DS_v10.pdf; ComponentLink3Description: Package Specification; ComponentLink3URL: http://www.infineon.com/dgdl/BTS50055-1TMA_DS_v11.pdf?folderId=db3a304314dca389011537739e37155f&fileId=db3a3043183a95550118607dca6c36c1&sId=db3a30433d68e984013d81e8892a7448
footprint INF-PG-TO220-7-4_N (DPAK, 7-Leads, Body 10x9.25mm, Pitch 1.27mm, IPC Medium Density)
footprint INF-PG-TO220-7-4_L (DPAK, 7-Leads, Body 10x9.25mm, Pitch 1.27mm, IPC High Density)
footprint INF-PG-TO220-7-4_M (DPAK, 7-Leads, Body 10x9.25mm, Pitch 1.27mm, IPC Low Density)
pins: 1 OUT (power) "Output; output to the load; pin 1, 2, 6 and 7 must be externally shorted.", 2 OUT (power) "Output; output to the load; pin 1, 2, 6 and 7 must be externally shorted.", 3 IN (in) "Input; activates the power switch if shorted to ground.", 4 VBB (power) "Supply Voltage; positive power supply voltage; tab and pin 4 are internally shorted", 5 IS (out) "Sense Output; Diagnostic feedback; provides at normal operation a sense current proportional to the load current; in case of overload, overtemperature and/or short circuit a defined current is provided (see Table 1 “Truth (See Datasheet)", 6 OUT (power) "Output; output to the load; pin 1, 2, 6 and 7 must be externally shorted.", 7 OUT (power) "Output; output to the load; pin 1, 2, 6 and 7 must be externally shorted.", 8 VBB (power) "Supply Voltage; positive power supply voltage; tab and pin 4 are internally shorted"

## BTS50080-1TMB
designator U?
Smart High-Side Power Switch PROFET, 1 Channel, 12 A Load Current, -40 to 150 degC, PG-TO220-7-12, Reel, Green; Manufacturer: Infineon; PartNumber: BTS50080-1TMB; Channels: 1; Green: TRUE; Group: Automotive Qualified; Load Current (typ): 12 A; Ptot (max): 81 W; Recommended Operating Voltage Max.: 38 V; Recommended Operating Voltage Min.: 5.5 V; RON @ 25degreesC: 8 mOhm; RON(max) @ 150degreesC: 16 mOhm; toff (max): 600 us; ton (max): 550 us; DatasheetVersion: Rev. 1.0; PackageVersion: Jul-07; PackageReference: PG-TO220-7-12; PackageDescription: 7-Pin Plastic (Green) Transistor Single Outline Package, 10 x 9.25 mm Body, 1.27 mm Pitch; Supplier 1: Mouser; Supplier Part Number 1: 726-BTS500801TMB; Supplier 2: Newark; Supplier Part Number 2: 47W3398; Supplier 3: Farnell; Supplier Part Number 3: 2215526; Supplier 4: Digi-Key; Supplier Part Number 4: BTS50080-1TMB-ND; Halogen-free: TRUE; Packing: Reel; Mounting Technology: Through Hole; ComponentLink1Description: Manufacturer URL; ComponentLink1URL: http://www.infineon.com/; ComponentLink2Description: Datasheet; ComponentLink2URL: http://www.infineon.com/dgdl/BTS50080-1TMB_DS_v10.pdf?folderId=db3a304314dca389011537739e37155f&fileId=db3a3043183a95550118605639de363e&location=en.Products.Automotive_ICs.Smart_High-_and_Low-Side_Switches.PROFET__-_Smart_High_Side_Switches.DATASHEET.BTS50080-1TMB_DS_v10.pdf; ComponentLink3Description: Package Specification; ComponentLink3URL: http://www.infineon.com/dgdl/TLE5205-2_DS_11%5B1%5D.pdf?folderId=db3a30431b3e89eb011bb632994f065b&fileId=db3a30431f848401011fc747c7a0797f&sId=db3a30433d68e984013d7d43135b5b6a
footprint INF-PG-TO220-7-12 (FM, 7-Leads, Body 10x4.4mm, Pitch 1.27mm)
pins: 1 OUT (power) "Output to the load. The pins1,2,6 and 7 must be shorted with each other especially in high current applications!", 2 OUT (power) "Output to the load. The pins1,2,6 and 7 must be shorted with each other especially in high current applications!", 3 IN (in) "Input, activates the power switch in case of short to ground", 4 VBB (power) "Positive power supply voltage, the tab is electrically connected to this pin. In high current applications the tab should be used for the Vbb connection instead of this pin", 5 IS (out) "Diagnostic feedback providing a sense current proportional to the load current; zero current on failure (see Truth Table on page 7)", 6 OUT (power) "Output to the load. The pins1,2,6 and 7 must be shorted with each other especially in high current applications!", 7 OUT (power) "Output to the load. The pins1,2,6 and 7 must be shorted with each other especially in high current applications!"

## BTS50080-1TMC
designator U?
Smart High-Side Power Switch PROFET, 1 Channel, 12 A Load Current, -40 to 150 degC, PG-TO220-7-4, Reel, Green; Manufacturer: Infineon; PartNumber: BTS50080-1TMC; Channels: 1; Green: TRUE; Group: Automotive Qualified; Load Current (typ): 12 A; Ptot (max): 81 W; Recommended Operating Voltage Max.: 38 V; Recommended Operating Voltage Min.: 5.5 V; RON @ 25degreesC: 8 mOhm; RON(max) @ 150degreesC: 16 mOhm; toff (max): 600 us; ton (max): 550 us; DatasheetVersion: Rev. 1.0; PackageVersion: Apr-10; PackageReference: PG-TO220-7-4; PackageDescription: 7-Pin Plastic (Green) Transistor Single Outline Package, 10 x 9.25 mm Body, 1.27 mm Pitch; Supplier 1: Mouser; Supplier Part Number 1: 726-BTS50080-1TMC; Supplier 2: Digi-Key; Supplier Part Number 2: BTS50080-1TMC-ND; Halogen-free: TRUE; Packing: Reel; Mounting Technology: Surface Mount; ComponentLink1Description: Manufacturer URL; ComponentLink1URL: http://www.infineon.com/; ComponentLink2Description: Datasheet; ComponentLink2URL: http://www.infineon.com/dgdl/BTS50080-1TMC_DS_V10.pdf?folderId=db3a304314dca389011537739e37155f&fileId=db3a3043266237920126992737c951ee&location=en.Products.Automotive_ICs.Smart_High-_and_Low-Side_Switches.PROFET__-_Smart_High_Side_Switches.DATASHEET.BTS50080-1TMC_DS_V10.pdf; ComponentLink3Description: Package Specification; ComponentLink3URL: http://www.infineon.com/dgdl/BTS50055-1TMA_DS_v11.pdf?folderId=db3a304314dca389011537739e37155f&fileId=db3a3043183a95550118607dca6c36c1&sId=db3a30433d68e984013d81e8892a7448
footprint INF-PG-TO220-7-4_N (DPAK, 7-Leads, Body 10x9.25mm, Pitch 1.27mm, IPC Medium Density)
footprint INF-PG-TO220-7-4_L (DPAK, 7-Leads, Body 10x9.25mm, Pitch 1.27mm, IPC High Density)
footprint INF-PG-TO220-7-4_M (DPAK, 7-Leads, Body 10x9.25mm, Pitch 1.27mm, IPC Low Density)
pins: 1 OUT (power) "Output; output to the load; pin 1, 2, 6 and 7 must be externally shorted.", 2 OUT (power) "Output; output to the load; pin 1, 2, 6 and 7 must be externally shorted.", 3 IN (in) "Input; activates the power switch if shorted to ground.", 4 VBB (power) "Supply Voltage; positive power supply voltage; tab and pin 4 are internally shorted", 5 IS (out) "Sense Output; Diagnostic feedback; provides at normal operation a sense current proportional to the load current; in case of overload, overtemperature and/or short circuit a defined current is provided (see Table 1 “Truth (See Datasheet)", 6 OUT (power) "Output; output to the load; pin 1, 2, 6 and 7 must be externally shorted.", 7 OUT (power) "Output; output to the load; pin 1, 2, 6 and 7 must be externally shorted.", 8 VBB (power) "Supply Voltage; positive power supply voltage; tab and pin 4 are internally shorted"